# EAGLE library part SMD-SIM-HOLDER (library OPL-Connector)
320100001
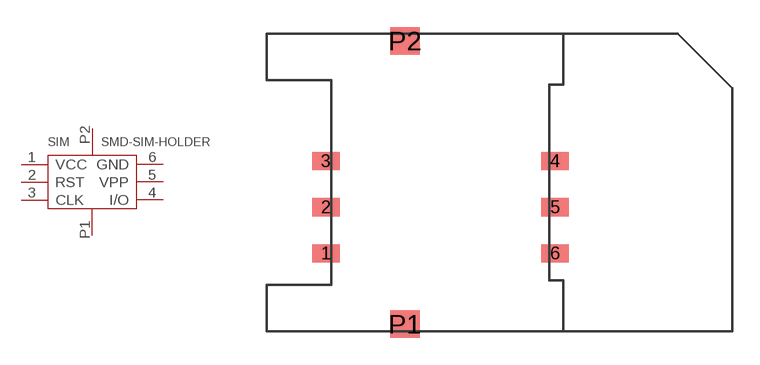
[diagram p51: symbol with the pads of SIM6+2P-SMD-16.4X16.3X1.8MM; footprint SIM6+2P-SMD-16.4X16.3X1.8MM]

Designator prefix SIM

## SMD-SIM-HOLDER (MPN: ST-SIM-004B)  [SIM6+2P-SMD-16.4X16.3X1.8MM]
1  VCC
2  RST
3  CLK
4  I/O
5  VPP
6  GND
P1  7
P2  8

## Footprint SIM6+2P-SMD-16.4X16.3X1.8MM (pad centres in mm)
smd 1.5 x 1: 1 -6.3,-3.9; 2 -6.3,-1.36; 3 -6.3,1.18; 4 6.3,1.18; 5 6.3,-1.36; 6 6.3,-3.9
smd 1.6 x 1.5: P1 -1.95,-7.8; P2 -1.95,7.8